# EAGLE library part DEC40PINS (library dec-con)
40 pin ribbon connector for BC08, BC11 cables.
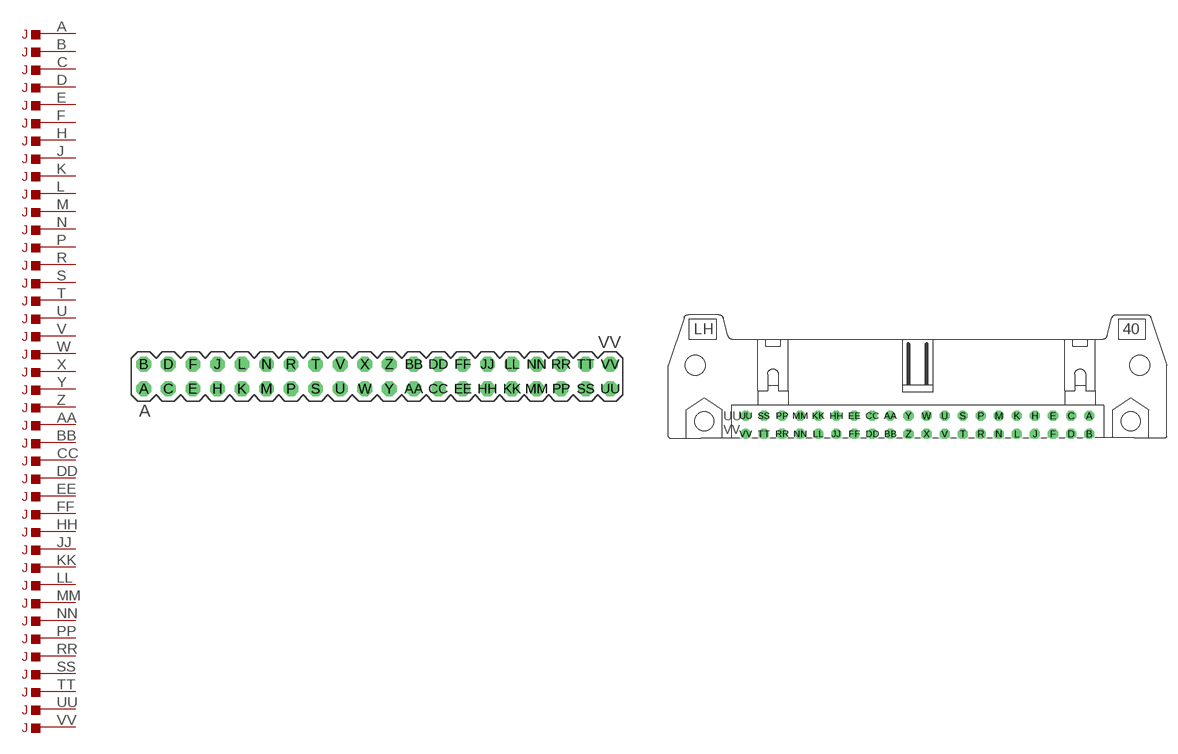
[diagram p37: symbol with the pads of DEC40PINV; footprints DEC40PINV, DEC40PINH]

Designator prefix J; gates A=PIN B=PIN C=PIN D=PIN E=PIN F=PIN H=PIN J=PIN K=PIN L=PIN M=PIN N=PIN P=PIN R=PIN S=PIN T=PIN U=PIN V=PIN W=PIN X=PIN Y=PIN Z=PIN AA=PIN BB=PIN CC=PIN DD=PIN EE=PIN FF=PIN HH=PIN JJ=PIN KK=PIN LL=PIN MM=PIN NN=PIN PP=PIN RR=PIN SS=PIN TT=PIN UU=PIN VV=PIN

## DEC40PINSV  [DEC40PINV]
A  A:P  pas
AA  AA:P  pas
B  B:P  pas
BB  BB:P  pas
C  C:P  pas
CC  CC:P  pas
D  D:P  pas
DD  DD:P  pas
E  E:P  pas
EE  EE:P  pas
F  F:P  pas
FF  FF:P  pas
H  H:P  pas
HH  HH:P  pas
J  J:P  pas
JJ  JJ:P  pas
K  K:P  pas
KK  KK:P  pas
L  L:P  pas
LL  LL:P  pas
M  M:P  pas
MM  MM:P  pas
N  N:P  pas
NN  NN:P  pas
P  P:P  pas
PP  PP:P  pas
R  R:P  pas
RR  RR:P  pas
S  S:P  pas
SS  SS:P  pas
T  T:P  pas
TT  TT:P  pas
U  U:P  pas
UU  UU:P  pas
V  V:P  pas
VV  VV:P  pas
W  W:P  pas
X  X:P  pas
Y  Y:P  pas
Z  Z:P  pas

## DEC40PINSH  [DEC40PINH]
Pads as for DEC40PINV

## Footprint DEC40PINV (pad centres in mm)
PIN HEADER
drill 1.016 octagon: A -24.13,-1.27; AA 3.81,-1.27; B -24.13,1.27; BB 3.81,1.27; C -21.59,-1.27; CC 6.35,-1.27; D -21.59,1.27; DD 6.35,1.27; E -19.05,-1.27; EE 8.89,-1.27; F -19.05,1.27; FF 8.89,1.27; H -16.51,-1.27; HH 11.43,-1.27; J -16.51,1.27; JJ 11.43,1.27; K -13.97,-1.27; KK 13.97,-1.27; L -13.97,1.27; LL 13.97,1.27; M -11.43,-1.27; MM 16.51,-1.27; N -11.43,1.27; NN 16.51,1.27; P -8.89,-1.27; PP 19.05,-1.27; R -8.89,1.27; RR 19.05,1.27; S -6.35,-1.27; SS 21.59,-1.27; T -6.35,1.27; TT 21.59,1.27; U -3.81,-1.27; UU 24.13,-1.27; V -3.81,1.27; VV 24.13,1.27; W -1.27,-1.27; X -1.27,1.27; Y 1.27,-1.27; Z 1.27,1.27

## Footprint DEC40PINH (pad centres in mm)
CONNECTOR
drill 0.914 octagon: A 24.13,1.27; AA -3.81,1.27; B 24.13,-1.27; BB -3.81,-1.27; C 21.59,1.27; CC -6.35,1.27; D 21.59,-1.27; DD -6.35,-1.27; E 19.05,1.27; EE -8.89,1.27; F 19.05,-1.27; FF -8.89,-1.27; H 16.51,1.27; HH -11.43,1.27; J 16.51,-1.27; JJ -11.43,-1.27; K 13.97,1.27; KK -13.97,1.27; L 13.97,-1.27; LL -13.97,-1.27; M 11.43,1.27; MM -16.51,1.27; N 11.43,-1.27; NN -16.51,-1.27; P 8.89,1.27; PP -19.05,1.27; R 8.89,-1.27; RR -19.05,-1.27; S 6.35,1.27; SS -21.59,1.27; T 6.35,-1.27; TT -21.59,-1.27; U 3.81,1.27; UU -24.13,1.27; V 3.81,-1.27; W 1.27,1.27; X 1.27,-1.27; Y -1.27,1.27; Z -1.27,-1.27
drill 0.914: VV -24.13,-1.27